# Altium schematic symbol library Kingbright.SchLib: 1 symbol
Pins are listed as number, name and electrical type; pins without a type are passive.

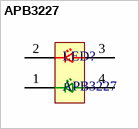
[diagram p0: symbol APB3227]

## APB3227
designator LED?
APB3227 3.2 x 2.7 mm Surface Mount LED Lamp; Manufacturer: Kingbright; Part Number: APB3227; Value: APB3227; Device Package: 4-SMD; Mounting Type: SMT; Operating Temperature: *; Package / Case: *; Size / Dimension: *; Thickness (Max): *; Distributor link 1: *; Distributor link 2: *; Distributor link 3: *; Link: https://www.kingbrightusa.com/kcpartno.asp?txtPartNo=APB3227
footprint 1210_LED (LED 1210 (4-SMD))
pins: 1, 2, 3, 4